# Altium schematic symbol library Thermistor NTC 265V.SchLib: 1 symbol
Pins are listed as number, name and electrical type; pins without a type are passive.

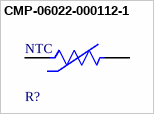
[diagram p0: symbol CMP-06022-000112-1]

## CMP-06022-000112-1
designator R?, comment NTC
ICL 2.2 OHM 15% 3.7A 10MM; Resistance: 2.2R; Voltage: 264V; Lead Diameter: 0.8mm; Max Operating Temperature: 160°C; Radiation Hardening: No; Lead Free: Lead Free; Min Operating Temperature: -20°C; Packaging: Bulk; Diameter: 0.394inch; Number of Pins: 2; Lead Pitch: 0.295inch; Depth: 5mm; Mount: Through Hole; Tolerance: 15%; Thickness: 5mm; Case/Package: Radial; Current Rating: 3.7A; Package Quantity: 100; Width: 5mm
footprint FP-NTPAA-MFG
pins: 1, 2